# Altium schematic symbol library PH.SchLib: 19 symbols
Pins are listed as number, name and electrical type; pins without a type are passive.

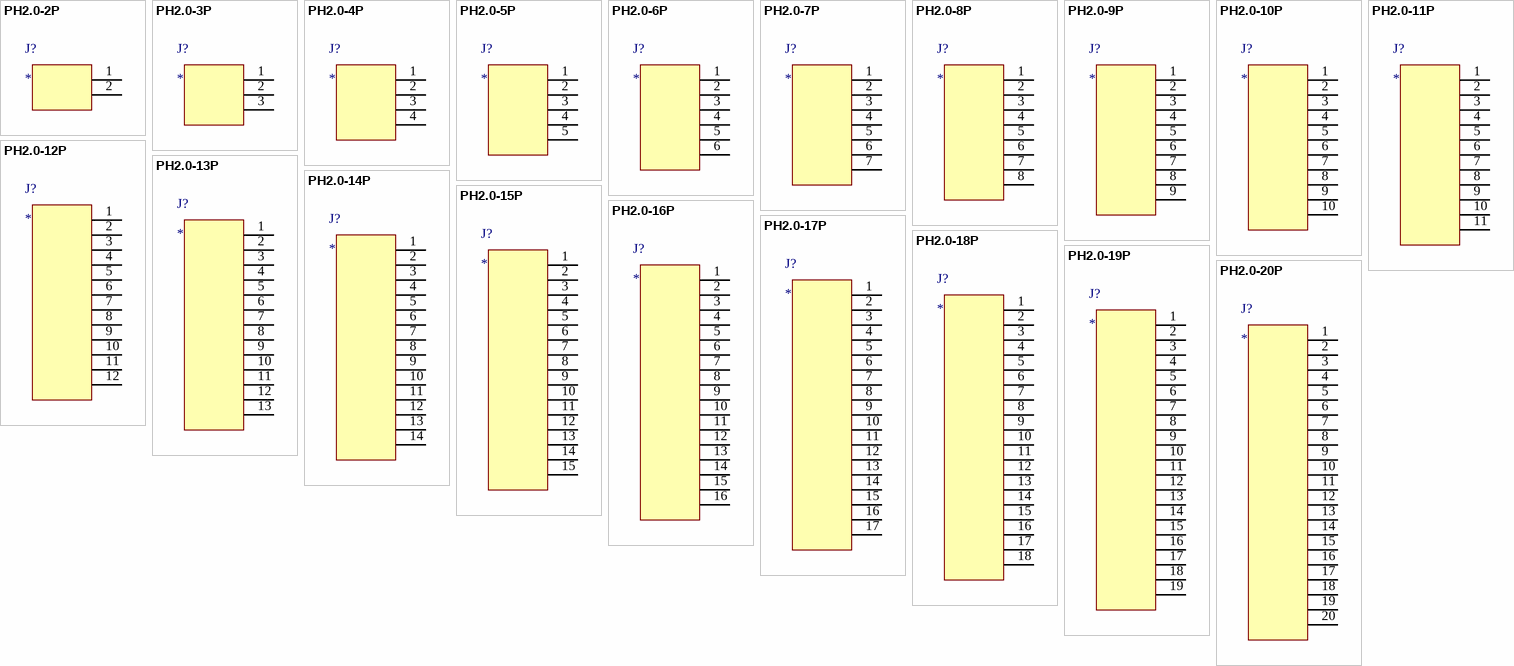
[diagram p0: symbols PH2.0-2P to PH2.0-20P]

## PH2.0-2P
designator J?
pins: 1, 2

## PH2.0-3P
designator J?
pins: 1, 2, 3

## PH2.0-4P
designator J?
pins: 1, 2, 3, 4

## PH2.0-5P
designator J?
pins: 1, 2, 3, 4, 5

## PH2.0-6P
designator J?
pins: 1, 2, 3, 4, 5, 6

## PH2.0-7P
designator J?
pins: 1, 2, 3, 4, 5, 6, 7

## PH2.0-8P
designator J?
pins: 1, 2, 3, 4, 5, 6, 7, 8

## PH2.0-9P
designator J?
pins: 1, 2, 3, 4, 5, 6, 7, 8, 9

## PH2.0-10P
designator J?
pins: 1, 2, 3, 4, 5, 6, 7, 8, 9, 10

## PH2.0-11P
designator J?
pins: 1, 2, 3, 4, 5, 6, 7, 8, 9, 10, 11

## PH2.0-12P
designator J?
pins: 1, 2, 3, 4, 5, 6, 7, 8, 9, 10, 11, 12

## PH2.0-13P
designator J?
pins: 1, 2, 3, 4, 5, 6, 7, 8, 9, 10, 11, 12, 13

## PH2.0-14P
designator J?
pins: 1, 2, 3, 4, 5, 6, 7, 8, 9, 10, 11, 12, 13, 14

## PH2.0-15P
designator J?
pins: 1, 2, 3, 4, 5, 6, 7, 8, 9, 10, 11, 12, 13, 14, 15

## PH2.0-16P
designator J?
pins: 1, 2, 3, 4, 5, 6, 7, 8, 9, 10, 11, 12, 13, 14, 15, 16

## PH2.0-17P
designator J?
pins: 1, 2, 3, 4, 5, 6, 7, 8, 9, 10, 11, 12, 13, 14, 15, 16, 17

## PH2.0-18P
designator J?
pins: 1, 2, 3, 4, 5, 6, 7, 8, 9, 10, 11, 12, 13, 14, 15, 16, 17, 18

## PH2.0-19P
designator J?
pins: 1, 2, 3, 4, 5, 6, 7, 8, 9, 10, 11, 12, 13, 14, 15, 16, 17, 18, 19

## PH2.0-20P
designator J?
pins: 1, 2, 3, 4, 5, 6, 7, 8, 9, 10, 11, 12, 13, 14, 15, 16, 17, 18, 19, 20